# EAGLE library part M05X2 (library Robot)
10-PIN DUAL ROW HEADER Standard 10-pin dual row 0.1" header.
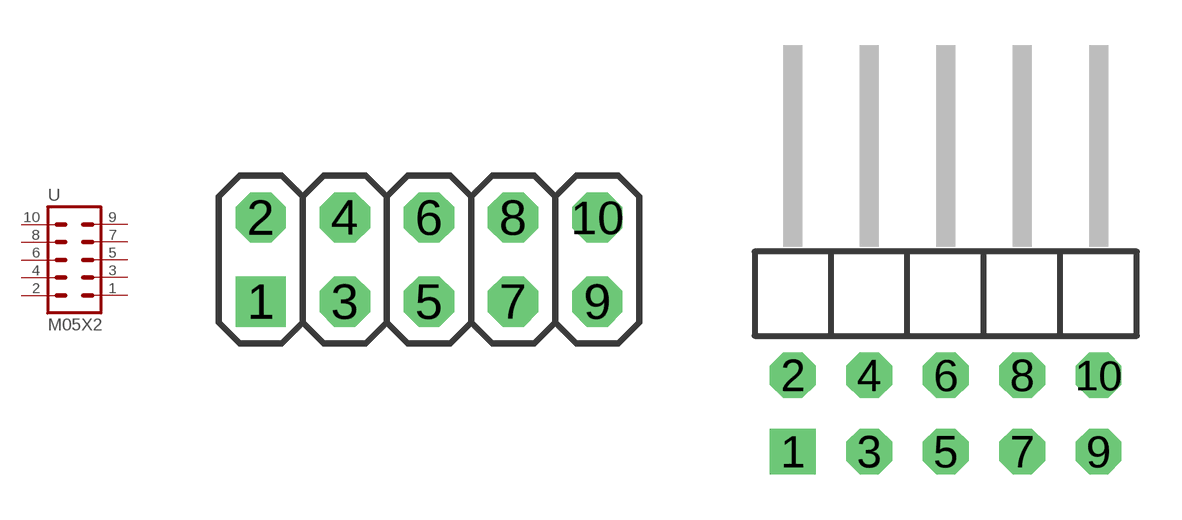
[diagram p11: symbol with the pads of 2X05; footprints 2X05, 2X05/90]

Designator prefix -

## M05X2PTH  [2X05]
1  1  pas
2  2  pas
3  3  pas
4  4  pas
5  5  pas
6  6  pas
7  7  pas
8  8  pas
9  9  pas
10  10  pas

## M05X2PTH90  [2X05/90]
Pads as for 2X05

## M05X2SHROUDED  [2X05/SHROUDED]
Pads as for 2X05

## M05X2SHROUDED90  [2X05/90/SHROUDED]
Pads as for 2X05

## Footprint 2X05 (pad centres in mm)
PIN HEADER (2X05, 0.1" spaced, 8mil silkscreen)
drill 1.016 square: 1 -5.08,-1.27
drill 1.016 octagon: 2 -5.08,1.27; 3 -2.54,-1.27; 4 -2.54,1.27; 5 0,-1.27; 6 0,1.27; 7 2.54,-1.27; 8 2.54,1.27; 9 5.08,-1.27; 10 5.08,1.27

## Footprint 2X05/90 (pad centres in mm)
PIN HEADER (2X05, 0.1" spaced, 90°, 8mil silkscreen) This is based on the AMPMODU II Datasheet (TYCO / AMP 5-826634-0) Farnell: 3418650
drill 1.016 square: 1 -5.08,-1.28
drill 1.016 octagon: 2 -5.08,1.26; 3 -2.54,-1.28; 4 -2.54,1.26; 5 0,-1.28; 6 0,1.26; 7 2.54,-1.28; 8 2.54,1.26; 9 5.08,-1.28; 10 5.08,1.26

## Footprint 2X05/SHROUDED (pad centres in mm)
HARTING
drill 1.016 square: 1 -5.08,-1.27
drill 1.016 octagon: 2 -5.08,1.27; 3 -2.54,-1.27; 4 -2.54,1.27; 5 0,-1.27; 6 0,1.27; 7 2.54,-1.27; 8 2.54,1.27; 9 5.08,-1.27; 10 5.08,1.27

## Footprint 2X05/90/SHROUDED (pad centres in mm)
HARTING
drill 1.016 square: 1 -5.08,-1.27
drill 1.016 octagon: 2 -5.08,1.27; 3 -2.54,-1.27; 4 -2.54,1.27; 5 0,-1.27; 6 0,1.27; 7 2.54,-1.27; 8 2.54,1.27; 9 5.08,-1.27; 10 5.08,1.27